# Altium integrated library car_camera_timer.IntLib: 19 symbols
Pins are listed as number, name and electrical type; pins without a type are passive.

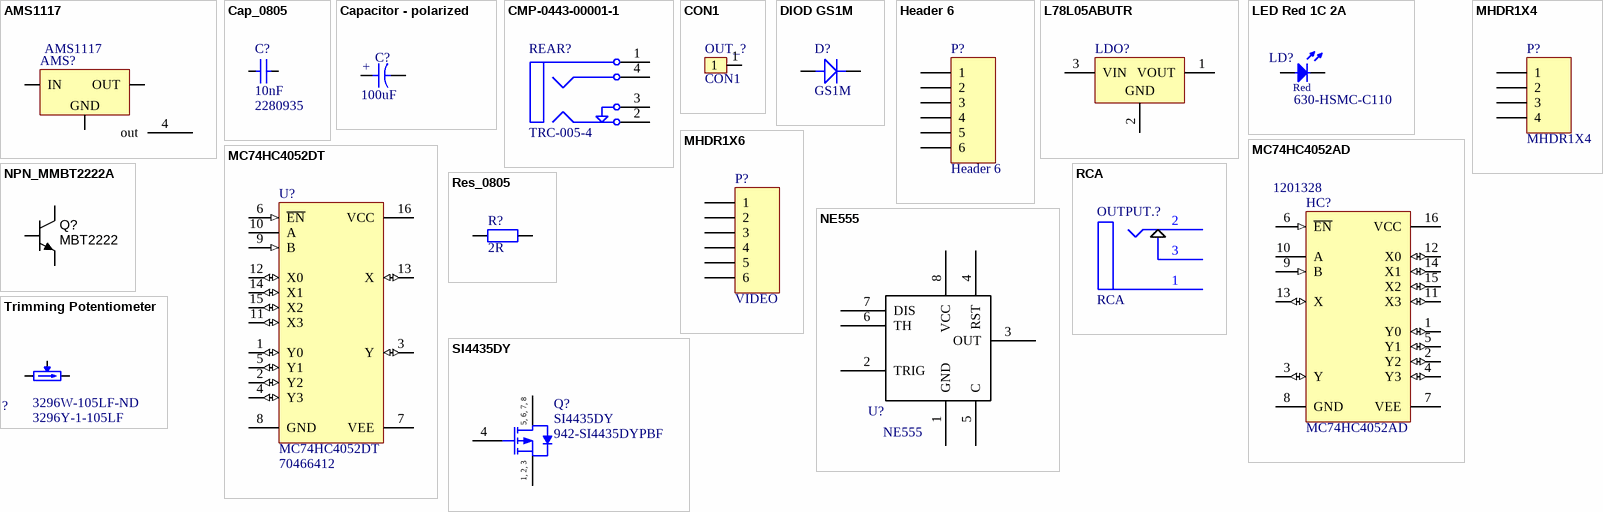
[diagram p0: symbols AMS1117 to Trimming Potentiometer]

## AMS1117
designator AMS?
Power
footprint SOT223-3
pins: 1 GND (power), 2 OUT (power), 3 IN (power), 4 out (power)

## Cap_0805
designator C?  value 10nF  Supplier Part Number 1: 2280935  (hidden comment: Cap_0805)
Capacitor; Supplier 1: Farnell
footprint CAP_0805 (Chip Capacitor, Body 2.0x1.2mm, 0805, IPC Medium Density)
pins: 1, 2

## Capacitor - polarized
designator C?, comment 100uF
Polarised capacitor; Part Number: CAER_100UF_25V_20%_RUBYCON_25ML100M8X7; Part Description: Aluminum Electrolytic Capacitor, (ML Series); Manufacturer: RUBYCON; Manufacturer Part Number: 25ML100M8X7; Voltage: 25V; Tolerance: ±20%; Table: Capacitors THD; Component Kind: Standard; Component Type: Standard; Footprint: CAPPR350-850X800; Pin Count: 2; Value: 100uF; Status: None; Case: LS3.5 D8.5 x H8; Mounted: Yes; Socket: No; SMD: No; ComponentHeight: 8mm; HelpURL: \\cern.ch\dfs\Applications\Altium\Datasheets\CAER_RUBYCON_25ML100M8X7.pdf; Author: CERN DEM JMW; CreateDate: 17/11/2008; LatestRevisionDate: 08/05/2013
footprint CAPPR350-850X800
pins: 1, 2
text: +

## CMP-0443-00001-1
designator REAR?, comment TRC-005-4
Connector, TRC-005-4 , Black RCA Phono Jack, Right Angle, Through Hole, Snap-In; Manufacturer: Technik Industrial; Mounting Technology: Through Hole; ComponentLink1Description: Manufacturer URL; ComponentLink1URL: http://www.technik.com.hk/; ComponentLink2URL: http://www.technik.com.hk/images/pdf_product/RC005-PBT-C.pdf; PackageDescription: RCA Phono Jack, Right Angle, Through-Hole, Body 20.8x9.8mm; PartNumber: TRC-005-4; DatasheetVersion: Aug-08; ComponentLink2Description: Datasheet; PackageReference: TRC-005-4
footprint TKID-TRC-005-04_V (RCA Phono Jack, Right Angle, Through-Hole, Body 20.8x9.8mm)
pins: 1, 2, 3, 4

## CON1
designator OUT_?
Упаковка: туб лента поддон; SMD_DIP: SMD_DIP; Корпус: *
footprint J_1
pins: 1

## DIOD GS1M
designator D?, comment GS1M
SMD диод; Корпус: DO214AA (SMA); Упаковка: лента; Поставщик: Temys; SMD_DIP: SMD; PartNumber: GS1M; DataSheet: www.datasheetcatalog.org/datasheet/jgd/GS1D.pdf
3D model DO214AA (PCB3D Model)
footprint DO214AA
pins: 1, 2

## Header 6
designator P?
Header, 6-Pin; LatestRevisionDate: 17-Jul-2002; LatestRevisionNote: Re-released for DXP Platform.; Publisher: Altium Limited
footprint HDR1X6 (Connector; Header; 6 Position)
signal-integrity model Connector
pins: 1, 2, 3, 4, 5, 6

## L78L05ABUTR
designator LDO?  (value not drawn)
Positive Voltage Regulator, 5V, 4-Pin SOT-89, Tape and Reel; DatasheetVersion: Feb-2011; PackageVersion: 2011; PackageReference: SOT-89; PackageDescription: 3-Pin SOT-89 Package 1.5 mm Pitch, 4.1 mm Lead Span; PartNumber: L78L05ABUTR; ComponentLink1Description: Manufacturer URL; ComponentLink1URL: http://www.st.com; ComponentLink2Description: Datasheet; ComponentLink2URL: http://www.st.com/internet/com/TECHNICAL_RESOURCES/TECHNICAL_LITERATURE/DATASHEET/CD00000446.pdf; Supplier 1: Newark; Supplier Part Number 1: 31Y2531
footprint SOT-89_N (SOT89, 3-Leads, Body 4.5x2.4 mm, Pitch 1.5mm, Lead Span 4.1mm, IPC Medium Density)
footprint SOT-89_L (SOT89, 3-Leads, Body 4.5x2.4 mm, Pitch 1.5mm, Lead Span 4.1mm, IPC High Density)
footprint SOT-89_M (SOT89, 3-Leads, Body 4.5x2.4 mm, Pitch 1.5mm, Lead Span 4.1mm, IPC Low Density)
pins: 1 VOUT (power), 2 GND (power), 3 VIN (power)

## LED Red 1C 2A
designator LD?, comment Supplier Part Number 1: 630-HSMC-C110  (hidden comment: Red)
LED Red 1C 2A; Part Number: LED_AVAGO_HSMC-C110; Part Description: High Performance Right Angle Chip Red LED; Manufacturer: AVAGO TECHNOLOGIES; Manufacturer Part Number: HSMC-C110; Table: LEDs & Displays; Component Kind: Standard; Component Type: Standard; Color: Red; Footprint: LED_AVAGO_HSMC-C110; PackageDescription: Red Chip LED, 2-Leads, Body 3.3x1.6mm, Side Emitting Package; Pin Count: 2; Mounted: Yes; Socket: No; SMD: Yes; ComponentHeight: 1.1mm; HelpURL: \\cern.ch\dfs\Applications\Altium\Datasheets\LED_AVAGO_HSMC-C110.pdf; ComponentLink1URL: \\cern.ch\dfs\Applications\Altium\Datasheets\LED_AVAGO_HSMC-C110_DESIGN-GUIDE.pdf; ComponentLink1Description: Design Guide; Author: CERN DEM JMW; CreateDate: 30/07/2009; LatestRevisionDate: 20/06/2012; Supplier 1: Mouser
footprint LED_AVAGO_HSMC-C110
pins: 1 C, 2 A

## MC74HC4052AD
designator HC?  Supplier Part Number 1: 1201328
Analog Multiplexer/Demultiplexer; Published: 17-Jul-2002; LatestRevisionDate: 13-Apr-2006; LatestRevisionNote: IPC-7351 Footprint Added.; DatasheetVersion: Mar-2000; PackageVersion: May-1997; PackageReference: 751B-05; Publisher: Altium Limited; PackageDescription: 16-Pin Small Outline Integrated Circuit 1.27 mm Pitch; Code_JEDEC: MS-012-AC; Code_IPC: SOIC127P600-16; ComponentLink1Description: Manufacturer Link; ComponentLink1URL: http://www.onsemi.com/site/products/parametrics/0,4446,47,00.html; ComponentLink2Description: Datasheet; ComponentLink2URL: http://www.onsemi.com/pub/Collateral/MC74HC4051A-D.PDF; Supplier 1: Farnell
footprint 751B-05_N (SOIC, 16-Leads, Body 9.9x3.9mm, Pitch 1.27mm, IPC Medium Density)
footprint 751B-05_L (SOIC, 16-Leads, Body 9.9x3.9mm, Pitch 1.27mm, IPC High Density)
footprint 751B-05_M (SOIC, 16-Leads, Body 9.9x3.9mm, Pitch 1.27mm, IPC Low Density)
3D model 751B-05 (16-Pin Small Outline Integrated Circuit 1.27 mm Pitch)
signal-integrity model MC74HC4052AD
pins: 1 Y0 (io), 2 Y2 (io), 3 Y (io), 4 Y3 (io), 5 Y1 (io), 6 ~{EN} (in), 7 VEE (power), 8 GND (power), 9 B (in), 10 A, 11 X3 (io), 12 X0 (io), 13 X (io), 14 X1 (io), 15 X2 (io), 16 VCC (power)

## MC74HC4052DT
designator U?  Supplier Part Number 1: 70466412
Dual 4-Channel Analog Multiplexer/Demultiplexer; Published: 15-Apr-2002; LatestRevisionDate: 12-Dec-2006; LatestRevisionNote: IPC-7351 Footprint Added.; DatasheetVersion: 1995; PackageVersion: Feb-2000; PackageReference: 948F-01; Publisher: Altium Limited; PackageDescription: 16-Pin Thin Small Outline Package 0.65 mm Pitch; ComponentLink1Description: Manufacturer Link; ComponentLink1URL: http://www.onsemi.com/; ComponentLink2Description: Datasheet; ComponentLink2URL: http://www.onsemi.com/pub/Collateral/MC74HC4051-D.PDF; Supplier 1: Allied
footprint 948F-01_N (TSOP, 16-Leads, Body 5x4.4mm, Pitch 0.65mm, IPC Medium Density)
footprint 948F-01_L (TSOP, 16-Leads, Body 5x4.4mm, Pitch 0.65mm, IPC High Density)
footprint 948F-01_M (TSOP, 16-Leads, Body 5x4.4mm, Pitch 0.65mm, IPC Low Density)
signal-integrity model MC74HC4052DT
pins: 1 Y0 (io), 2 Y2 (io), 3 Y (io), 4 Y3 (io), 5 Y1 (io), 6 ~{EN} (in), 7 VEE (power), 8 GND (power), 9 B (in), 10 A, 11 X3 (io), 12 X0 (io), 13 X (io), 14 X1 (io), 15 X2 (io), 16 VCC (power)

## MHDR1X4
designator P?
Header, 4-Pin; LatestRevisionDate: 17-Jul-2002; LatestRevisionNote: Re-released for DXP Platform.; Publisher: Altium Limited
footprint MHDR1X4 (Connector; Header; 4 Position)
signal-integrity model Connector
pins: 1, 2, 3, 4

## MHDR1X6
designator P?, comment VIDEO
Header, 6-Pin; LatestRevisionDate: 17-Jul-2002; LatestRevisionNote: Re-released for DXP Platform.; Publisher: Altium Limited
footprint MHDR1X6 (Connector; Header; 6 Position)
signal-integrity model Connector
pins: 1, 2, 3, 4, 5, 6

## NE555
designator U?
TIMER IC; Manufacturer Part Number: NE555DT; Manufacturer: STMicroelectronics; Frequency: 500kHz; Voltage - Supply: 4.5 V ~ 16 V; Current: 200mA; Supplier 1: Digi-Key; Supplier Part Number 1: 497-1962-2-ND; Supplier: Digi-Key; Category: Integrated Circuits (ICs); Supplier Part Number: 497-1962-2-ND; Package / Case: 8-SOIC (3.9mm Width); Packaging: Tape & Reel (TR); RoHS: RoHS Compliant; Operating Temperature: 0°C ~ 70°C; Count: -; Type: 555 Type, Timer/Oscillator (Single)
footprint SO8
pins: 1 GND, 2 TRIG, 3 OUT, 4 RST, 5 C, 6 TH, 7 DIS, 8 VCC

## NPN_MMBT2222A
designator Q?, comment MBT2222
Transistor SMD NPN 40V 600mA 250mW SOT23-3; Manufacturer 1: Fairchild Semiconductor; Manufacturer Part Number 1: MMBT2222A; Ratings: 40V; 600mA; 250mW; Material: Si; SCDType: source; Package / Case: SOT-23; Mounting Type: Surface Mount; Supplier 1: Digi-Key; Supplier Part Number 1: MMBT2222AFSTR-ND; Manufacturer 2: NXP Semiconductors; Manufacturer Part Number 2: MMBT2222A; Supplier 2: Digi-Key; Supplier Part Number 2: 568-4509-2-ND; Value: MBT2222
footprint SOT23-3 (SOT23, 3 pin)
pins: 1 B, 2 E, 3 C

## RCA
designator OUTPUT.?
footprint RCA
pins: 1, 2, 3

## Res_0805
designator R?  value 2R  (hidden comment: Res_0805)
Resistor
footprint RES_0805 (Chip Resistor, Body 2.0x1.2mm, 0805, IPC Medium Density)
pins: 1, 2

## SI4435DY
designator Q?  Supplier Part Number 1: 942-SI4435DYPBF
P-Channel 30V (D-S) Rated  MOSFET; Published: 8-Jun-2000; LatestRevisionDate: 13-Apr-2006; LatestRevisionNote: IPC-7351 Footprint Added.; DatasheetVersion: 6-Oct-1997; PackageVersion: Aug-1998; PackageReference: SO-8; Publisher: Altium Limited; PackageDescription: 8-Pin Small Outline Integrated Circuit 1.27 mm Pitch; ComponentLink1Description: Manufacturer Link; ComponentLink1URL: http://www.vishay.com/; ComponentLink2Description: Datasheet; ComponentLink2URL: http://www.vishay.com/docs/70149/70149.pdf; Supplier 1: Mouser
footprint SO-8_N (SOIC, 8-Leads, Body 4.9x3.9mm, Pitch 1.27mm, IPC Medium Density)
footprint SO-8_L (SOIC, 8-Leads, Body 4.9x3.9mm, Pitch 1.27mm, IPC High Density)
footprint SO-8_M (SOIC, 8-Leads, Body 4.9x3.9mm, Pitch 1.27mm, IPC Low Density)
3D model SO-8 (8-Pin Small Outline Integrated Circuit 1.27 mm Pitch)
simulation model SI4435DY (SUBCKT)
pins: 1 S, 2 S, 3 S, 4 G, 5 D, 6 D, 7 D, 8 D
text: 5, 6, 7, 8; 1, 2, 3

## Trimming Potentiometer
designator 1?, comment Supplier Part Number 1: 3296W-105LF-ND  Supplier Part Number 2: 3296Y-1-105LF  Supplier Part Number 3: 652-3296Y-1-105  Supplier Part Number 4: ggKPwAKS2sB7yfOEZhzQbC3wJOBqSkwgVY0iHxrkrLU  Supplier Part Number 5: 3296Y-105LF-ND  Supplier Part Number 6: 1141425  Supplier Part Number 7: 652-3296Y-1-105LF  Supplier Part Number 8: 70154400  Supplier Part Number 9: 9353542  (hidden comment: 1M)
Trimming Potentiometer; Part Number: TRIM_25T_1M_BOURNS_3296Y-1-105LF; Part Description: 25 Turn Trimming Potentiometer (Top Adjustement); Manufacturer: BOURNS; Power: 0.5W; TC: ±100ppm/°C; Tolerance: ±10%; Table: Potentiometers THD; Component Kind: Standard; Component Type: Standard; Footprint: TRIM_BOURNS_3296Y; Pin Count: 3; Value: 1M; Manufacturer Part Number: 3296Y-1-105LF; Case: 3296Y; Mounted: Yes; Socket: No; SMD: No; ComponentHeight: 11.55mm; HelpURL: \\cern.ch\dfs\Applications\Altium\Datasheets\TRIM_BOURNS_3296Y.pdf; Author: CERN DEM JLC; CreateDate: 20/10/2008; LatestRevisionDate: 28/11/2012; Supplier 1: Digi-Key; Supplier 2: TME; Supplier 3: Mouser; Supplier 4: Arrow; Supplier 5: Digi-Key; Supplier 6: Farnell; Supplier 7: Mouser; Supplier 8: Allied; Supplier 9: Farnell
footprint TRIM_BOURNS_3296Y
pins: 1 CCW, 2 W, 3 CW